# Altium integrated library Analog IC Library.IntLib: 4 symbols
Pins are listed as number, name and electrical type; pins without a type are passive.

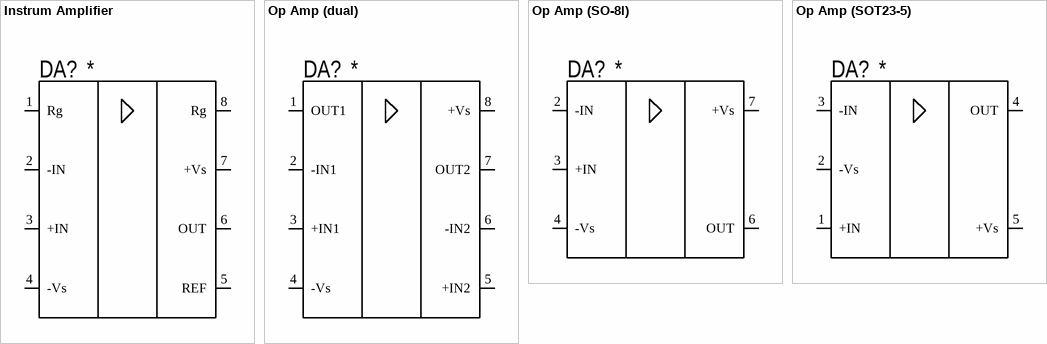
[diagram p0: symbols Instrum Amplifier to Op Amp (SOT23-5)]

## Instrum Amplifier
designator DA?
Model: *
pins: 1 Rg, 2 -IN, 3 +IN, 4 -Vs, 5 REF, 6 OUT, 7 +Vs, 8 Rg

## Op Amp (dual)
designator DA?
Model: *
pins: 1 OUT1, 2 -IN1, 3 +IN1, 4 -Vs, 5 +IN2, 6 -IN2, 7 OUT2, 8 +Vs

## Op Amp (SO-8l)
designator DA?
Model: *
pins: 2 -IN, 3 +IN, 4 -Vs, 6 OUT, 7 +Vs

## Op Amp (SOT23-5)
designator DA?
Model: *
pins: 1 +IN, 2 -Vs, 3 -IN, 4 OUT, 5 +Vs